# Altium footprint library B 变压器.PcbLib: 17 footprints (part 2 of 2)
Each footprint in its own frame and in the unit in brackets; x right, y up, seen from the top. Pads: shape width x height; smd on the part's side, far side on the other; paste and mask are expansions set on the pad; w line width, h text height; cw(c..) or ccw(c..) is an arc to the next point about the centre after c.
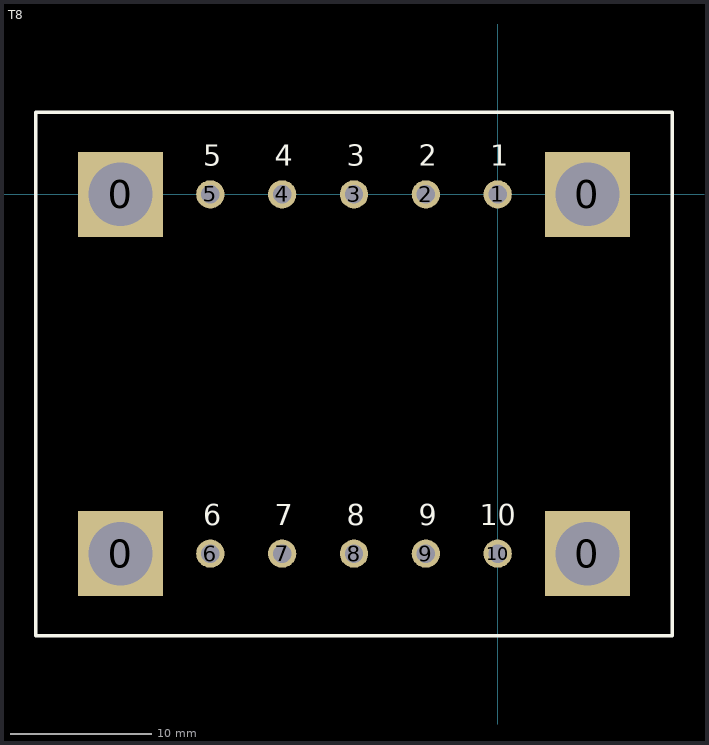
[diagram p1: the footprint, top view; thin cyan lines are the x and y axes]

## T8 [mm]
pads (14):
  rect 6x6 hole 4.5: 0(-26.67,-25.4) 0(-26.67,0) 0(6.35,-25.4) 0(6.35,0)
  round 2 hole 1.3: 1(0,0) 2(-5.08,0) 3(-10.16,0) 4(-15.24,0) 5(-20.32,0) 6(-20.32,-25.4) 7(-15.24,-25.4) 8(-10.16,-25.4) 9(-5.08,-25.4) 10(0,-25.4)
Top Overlay:
  lines w0.254: -32.66,-31.2 -32.66,5.8 12.34,5.8 12.34,-31.2 -32.66,-31.2
  text "1" at -0.508,1.524 h2.54
  text "2" at -5.588,1.524 h2.54
  text "3" at -10.668,1.524 h2.54
  text "4" at -15.748,1.524 h2.54
  text "5" at -20.828,1.524 h2.54
  text "6" at -20.828,-23.876 h2.54
  text "7" at -15.748,-23.876 h2.54
  text "8" at -10.668,-23.876 h2.54
  text "9" at -5.588,-23.876 h2.54
  text "10" at -1.27,-23.876 h2.54
Bottom Overlay:
  text "1" at 0.508,1.524 h2.54
  text "2" at -4.572,1.524 h2.54
  text "3" at -9.652,1.524 h2.54
  text "4" at -14.732,1.524 h2.54
  text "5" at -19.812,1.524 h2.54
  text "6" at -19.812,-23.876 h2.54
  text "7" at -14.732,-23.876 h2.54
  text "8" at -9.652,-23.876 h2.54
  text "9" at -4.572,-23.876 h2.54
  text "10" at 1.27,-23.876 h2.54